# Altium footprint library QFN65P300X300X80_HS-9L.PcbLib: 1 footprints
Each footprint in its own frame and in the unit in brackets; x right, y up, seen from the top. Pads: shape width x height; smd on the part's side, far side on the other; paste and mask are expansions set on the pad; w line width, h text height; cw(c..) or ccw(c..) is an arc to the next point about the centre after c.
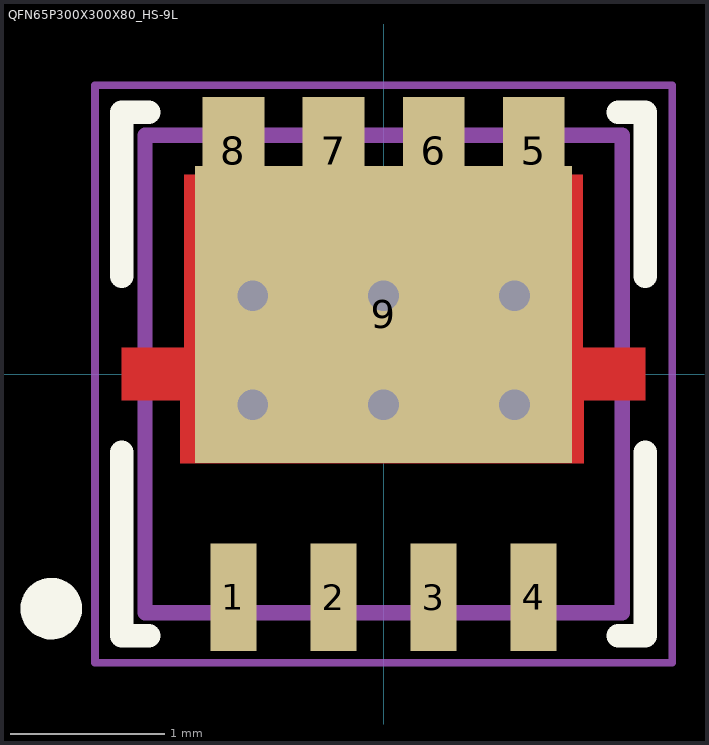
[diagram p0: the footprint, top view; thin cyan lines are the x and y axes]

## QFN65P300X300X80_HS-9L [mm] "QFN, 8-Leads, Body 3.00x3.00mm, Pitch 0.65mm, Thermal Pad 1.30x1.50mm, IPC High Density"
height 0.8
pads (17):
  rect 0.3x0.7 smd: 1(-0.975,-1.45) 2(-0.325,-1.45) 3(0.325,-1.45) 4(0.975,-1.45)
  rect 0.4x0.7 smd: 5(0.975,1.45) 6(0.325,1.45) 7(-0.325,1.45) 8(-0.975,1.45)
  rect 0x0 smd: 9(-0.85,0) 10(-0.35,0) 11(0,0.85) 12(0,0.35) 13(0.85,0) 14(0.35,0) 15(0,-0.85) 16(0,-0.35)
  rect 2.45x1.93 smd: 9(0,0.387)
via -0.85,-0.2 diameter 0.5 hole 0.2
via 0,-0.2 diameter 0.5 hole 0.2
via 0.85,-0.2 diameter 0.5 hole 0.2
via 0.85,0.508 diameter 0.5 hole 0.2
via 0,0.508 diameter 0.5 hole 0.2
via -0.85,0.508 diameter 0.5 hole 0.2
Top Layer:
  region: -1.295,0.17 -1.7,0.17 -1.7,-0.17 -1.321,-0.17 -1.321,-0.58 1.3,-0.58 1.3,-0.17 1.7,-0.17 1.7,0.17 1.295,0.17 1.295,1.295 -1.295,1.295
Top Overlay:
  circle w0.2: c-2.159,-1.524 r0.1
  lines w0.152: -1.7,-0.508 -1.7,-1.7 -1.525,-1.7 ; -1.7,0.635 -1.7,1.7 -1.525,1.7 ; 1.525,-1.7 1.7,-1.7 1.7,-0.508 ; 1.525,1.7 1.7,1.7 1.7,0.635
Mechanical 13:
  circle w0.1: c-0.65,0.65 r0.5
  lines w0.1: -1.55,-1.55 -1.55,1.55 1.55,1.55 1.55,-1.55 -1.55,-1.55
Mechanical 15:
  lines w0.05: -1.875,-1.875 -1.875,1.875 1.875,1.875 1.875,-1.875 -1.875,-1.875
  lines w0.1: -0.5,0 0.5,0 ; 0,-0.5 0,0.5
3D body: height 1.04, standoff 0, extent -1.65,-1.65 1.65,1.65